# Altium footprint library adafruit.PCBLIB: 643 footprints (part 10 of 41)
Each footprint in its own frame and in the unit in brackets; x right, y up, seen from the top. Pads: shape width x height; smd on the part's side, far side on the other; paste and mask are expansions set on the pad; w line width, h text height; cw(c..) or ccw(c..) is an arc to the next point about the centre after c.
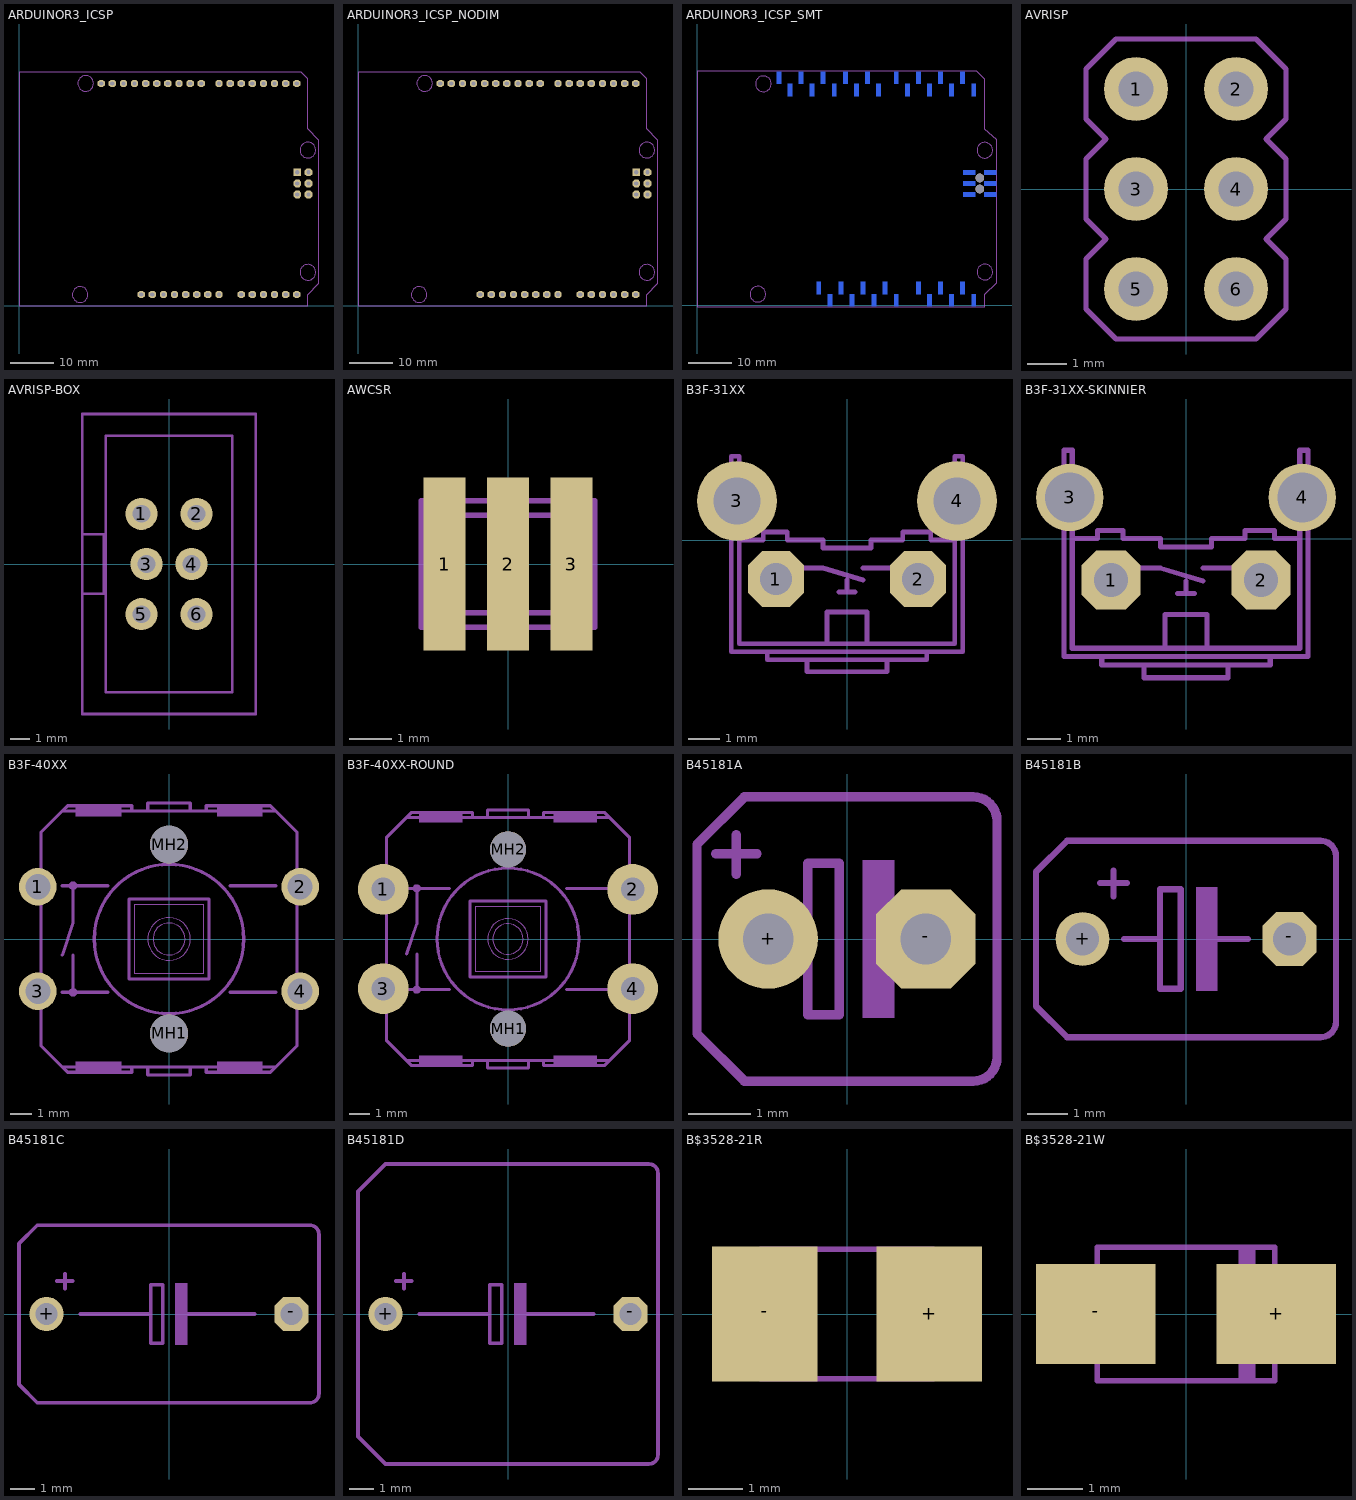
[diagram p9: the footprints below, top view; thin cyan lines are the x and y axes]

## ARDUINOR3_ICSP [mil]
pads (38):
  oct 66x66 / inner round 60.98 / far side oct 66x66 hole 39.37: 3V(1400,100) 5V(1500,100) A0(2000,100) A1(2100,100) A2(2200,100) A3(2300,100) A4(2400,100) A5(2500,100) AREF(940,2000) D0(2500,2000) D1(2400,2000) D2(2300,2000) D3(2200,2000) D4(2100,2000) D5(2000,2000) D6(1900,2000) D7(1800,2000) D8(1640,2000) D9(1540,2000) D10(1440,2000) D11(1340,2000) D12(1240,2000) D13(1140,2000) GND(1040,2000) GND@1(1700,100) GND@2(1600,100) IOREF(1200,100) RESERVED(1100,100) RESET(1300,100) SCL(740,2000) SDA(840,2000) VIN(1800,100)
  oct 70x70 / inner round 64.67 / far side oct 70x70 hole 39.37: 5V_ICSP(2605,1200) GND@3(2605,1000) MOSI(2605,1100) RESET_ICSP(2505,1000) SCK(2505,1100)
  rect 70x70 / inner round 64.67 / far side rect 70x70 hole 39.37: MISO(2505,1200)
Dimension:
  lines w0: 0,0 2600,0 2600,100 2700,200 2700,1490 2600,1590 2600,2040 2540,2100 0,2100 0,0
tDocu:
  circle w5: c600,2000 r70.71
  circle w5: c550,100 r70.71
  circle w5: c2600,1400 r70.71
  circle w5: c2600,300 r70.71
tPlace:
  text "RST" at 1249.6,10 h34
  text "3v" at 1368.2,150 h34
  text "5v" at 1478.2,150 h34
  text "Gnd" at 1605.4,150 h34
  text "Vin" at 1763.2,150 h34
  text "Analog In" at 2130.4,18.2 h34
  text "0" at 1985,150 h34
  text "1" at 2085,150 h34
  text "2" at 2185,150 h34
  text "3" at 2285,150 h34
  text "4" at 2385,150 h34
  text "5" at 2485,150 h34
  text "ARef" at 875,1910 h34
  text "Gnd" at 990,2050 h34
  text "13" at 1185,1950 h34
  text "12" at 1285,1950 h34
  text "11" at 1385,1950 h34
  text "10" at 1485,1950 h34
  text "9" at 1565,1950 h34
  text "8" at 1665,1950 h34
  text "7" at 1825,1950 h34
  text "6" at 1925,1950 h34
  text "5" at 2025,1950 h34
  text "4" at 2125,1950 h34
  text "3" at 2225,1950 h34
  text "2" at 2325,1950 h34
  text "1" at 2425,1950 h34
  text "0" at 2525,1950 h34
  text "Digital I/O" at 1245,2050 h34
  text "Digital I/O" at 2005,2050 h34
  text "SCL" at 695,1910 h34
  text "SDA" at 785,2050 h34
  text "IOr" at 1159.6,150 h34

## ARDUINOR3_ICSP_NODIM [mil]
pads (38):
  oct 66x66 / inner round 60.98 / far side oct 66x66 hole 39.37: 3V(1400,100) 5V(1500,100) A0(2000,100) A1(2100,100) A2(2200,100) A3(2300,100) A4(2400,100) A5(2500,100) AREF(940,2000) D0(2500,2000) D1(2400,2000) D2(2300,2000) D3(2200,2000) D4(2100,2000) D5(2000,2000) D6(1900,2000) D7(1800,2000) D8(1640,2000) D9(1540,2000) D10(1440,2000) D11(1340,2000) D12(1240,2000) D13(1140,2000) GND(1040,2000) GND@1(1700,100) GND@2(1600,100) IOREF(1200,100) RESERVED(1100,100) RESET(1300,100) SCL(740,2000) SDA(840,2000) VIN(1800,100)
  oct 70x70 / inner round 64.67 / far side oct 70x70 hole 39.37: 5V_ICSP(2605,1200) GND@3(2605,1000) MOSI(2605,1100) RESET_ICSP(2505,1000) SCK(2505,1100)
  rect 70x70 / inner round 64.67 / far side rect 70x70 hole 39.37: MISO(2505,1200)
tDocu:
  circle w5: c600,2000 r70.71
  circle w5: c550,100 r70.71
  circle w5: c2600,1400 r70.71
  circle w5: c2600,300 r70.71
  lines w0: 0,0 2600,0 2600,100 2700,200 2700,1490 2600,1590 2600,2040 2540,2100 0,2100 0,0
tPlace:
  text "RST" at 1249.6,10 h34
  text "3v" at 1368.2,150 h34
  text "5v" at 1478.2,150 h34
  text "Gnd" at 1605.4,150 h34
  text "Vin" at 1763.2,150 h34
  text "Analog In" at 2130.4,18.2 h34
  text "0" at 1985,150 h34
  text "1" at 2085,150 h34
  text "2" at 2185,150 h34
  text "3" at 2285,150 h34
  text "4" at 2385,150 h34
  text "5" at 2485,150 h34
  text "ARef" at 875,1910 h34
  text "Gnd" at 990,2050 h34
  text "13" at 1185,1950 h34
  text "12" at 1285,1950 h34
  text "11" at 1385,1950 h34
  text "10" at 1485,1950 h34
  text "9" at 1565,1950 h34
  text "8" at 1665,1950 h34
  text "7" at 1825,1950 h34
  text "6" at 1925,1950 h34
  text "5" at 2025,1950 h34
  text "4" at 2125,1950 h34
  text "3" at 2225,1950 h34
  text "2" at 2325,1950 h34
  text "1" at 2425,1950 h34
  text "0" at 2525,1950 h34
  text "Digital I/O" at 1245,2050 h34
  text "Digital I/O" at 2005,2050 h34
  text "SCL" at 695,1910 h34
  text "SDA" at 785,2050 h34
  text "IOr" at 1159.6,150 h34

## ARDUINOR3_ICSP_SMT [mil]
pads (40):
  rect 40x110 smd far side: 3V(1400,45) 5V(1500,155) A0(2000,155) A1(2100,45) A2(2200,155) A3(2300,45) A4(2400,155) A5(2500,45) AREF(940,2055) D0(2500,1945) D1(2400,2055) D2(2300,1945) D3(2200,2055) D4(2100,1945) D5(2000,2055) D6(1900,1945) D7(1800,2055) D8(1640,1945) D9(1540,2055) D10(1440,1945) D11(1340,2055) D12(1240,1945) D13(1140,2055) GND(1040,1945) GND@1(1700,155) GND@2(1600,45) IOREF(1200,45) RESERVED(1100,155) RESET(1300,155) SCL(740,2055) SDA(840,1945) VIN(1800,45)
  rect 110x40 smd far side: 5V_ICSP(2650,1200) GND@3(2650,1000) MISO(2460,1200) MOSI(2650,1100) RESET_ICSP(2460,1000) SCK(2460,1100)
  round 78.74 hole 78.74 unplated: MH1(2555,1150) MH2(2555,1050)
tDocu:
  circle w5: c600,2000 r70.71
  circle w5: c550,100 r70.71
  circle w5: c2600,1400 r70.71
  circle w5: c2600,300 r70.71
  lines w0: 0,-15 2600,-15 2600,100 2710,205 2710,1495 2600,1590 2600,2040 2525,2115 0,2115 0,-15

## AVRISP [mil]
pads (6):
  round 64 hole 35.43: 1(-50,100) 2(50,100) 3(-50,0) 4(50,0) 5(-50,-100) 6(50,-100)
tPlace:
  lines w5: -100,-120 -70,-150 70,-150 100,-120 100,-70 80,-50 100,-30 100,30 80,50 100,70 100,120 70,150 -70,150 -100,120 -100,70 -80,50 -100,30 -100,-30 -80,-50 -100,-70 -100,-120
  text "1" at -120,140 h34

## AVRISP-BOX [mil]
pads (6):
  round 64 hole 35.43: 1(-55,100) 2(55,100) 3(-45,0) 4(45,0) 5(-55,-100) 6(55,-100)
tPlace:
  lines w5: -173.23,-59.06 -173.23,-299.21 173.23,-299.21 173.23,299.21 -173.23,299.21 -173.23,59.06 ; -173.23,-59.06 -173.23,59.06 ; -173.23,-59.06 -129.92,-59.06 -129.92,59.06 -173.23,59.06 ; -125.98,-255.91 125.98,-255.91 125.98,255.91 -125.98,255.91 -125.98,-255.91

## AWCSR [mm]
pads (3):
  rect 1x4.1 smd: 1(-1.5,0) 2(0,0) 3(1.5,0)
tPlace:
  lines w0.127: -1.9,-1.45 -1.9,-1.2 ; -1.9,1.2 -1.9,1.5 ; -1.1,-1.45 -1.1,-1.2 ; -0.4,-1.45 -0.4,-1.15 ; -0.4,1.2 -0.4,1.5 ; 0.4,-1.45 0.4,-1.2 ; 0.4,1.2 0.4,1.5 ; 1.1,-1.45 1.1,-1.2 ; 1.1,1.2 1.1,1.5 ; 1.9,-1.45 1.9,-1.2 ; 1.9,1.2 1.9,1.5 ; -1.9,1.5 -2.05,1.5 -2.05,-1.5 -1.7,-1.5 cw(c-1.5,-1.5) -1.3,-1.5 -0.2,-1.5 cw(c0,-1.5) 0.2,-1.5 1.3,-1.5 cw(c1.5,-1.5) 1.7,-1.5 2.05,-1.5 2.05,1.5 1.9,1.5 ; -1.9,1.5 -1.7,1.5 ccw(c-1.5,1.5) -1.3,1.5 -1.1,1.5 ; -1.1,1.15 1.85,1.15 cw(c1.85,1) 2,1 2,-1.05 cw(c1.85,-1) 1.8,-1.15 -0.4,-1.15 ; -1.1,1.15 -1.9,1.15 ccw(c-1.9,1.05) -2,1.05 -2,-0.95 ccw(c-1.8,-0.95) -1.8,-1.15 -0.4,-1.15 ; -1.1,1.15 -1.1,1.5 ; -1.1,1.5 -0.4,1.5 ; -0.4,1.5 -0.2,1.5 ccw(c0,1.5) 0.2,1.5 0.4,1.5 ; 0.4,1.5 1.1,1.5 ; 1.1,1.5 1.3,1.5 ccw(c1.5,1.5) 1.7,1.5 1.9,1.5

## B3F-31XX [mil]
pads (4):
  oct 70x70 / inner round 64.67 / far side oct 70x70 hole 40: 1(-89,-49) 2(89,-49)
  round 100 hole 59: 3(-138,49) 4(138,49)
tDocu:
  lines w6: -145,0 -145,105 -135,105 -135,0 ; -135,-80 -135,-20 ; -65,-35 -30,-35 20,-50 ; -10,-65 0,-65 ; 0,-50 0,-65 ; 10,-65 0,-65 ; 20,-35 65,-35 ; 135,-80 135,-20 ; 135,0 135,105 145,105 145,0
tPlace:
  lines w6: -145,0 -145,-140 100,-140 ; -135,-80 -135,-130 -25,-130 ; -135,-20 -135,0 -105,0 -105,10 -75,10 -75,0 -30,0 -30,-10 30,-10 30,0 70,0 70,10 105,10 105,0 135,0 135,-20 ; -100,-140 -100,-150 -50,-150 ; 135,-80 135,-130 25,-130 ; 145,0 145,-140 100,-140 ; -50,-150 -50,-165 50,-165 50,-150 ; -50,-150 50,-150 ; -25,-130 -25,-90 25,-90 25,-130 ; -25,-130 25,-130 ; 50,-150 100,-150 100,-140

## B3F-31XX-SKINNIER [mil]
pads (4):
  oct 70x70 / inner round 64.67 / far side oct 70x70 hole 40: 1(-89,-49) 2(89,-49)
  round 80 hole 59: 3(-138,49) 4(138,49)
tDocu:
  lines w6: -145,0 -145,105 -135,105 -135,0 ; -135,-80 -135,-20 ; -65,-35 -30,-35 20,-50 ; -10,-65 0,-65 ; 0,-50 0,-65 ; 10,-65 0,-65 ; 20,-35 65,-35 ; 135,-80 135,-20 ; 135,0 135,105 145,105 145,0
tPlace:
  lines w6: -145,0 -145,-140 100,-140 ; -135,-80 -135,-130 -25,-130 ; -135,-20 -135,0 -105,0 -105,10 -75,10 -75,0 -30,0 -30,-10 30,-10 30,0 70,0 70,10 105,10 105,0 135,0 135,-20 ; -100,-140 -100,-150 -50,-150 ; 135,-80 135,-130 25,-130 ; 145,0 145,-140 100,-140 ; -50,-150 -50,-165 50,-165 50,-150 ; -50,-150 50,-150 ; -25,-130 -25,-90 25,-90 25,-130 ; -25,-130 25,-130 ; 50,-150 100,-150 100,-140

## B3F-40XX [mil]
pads (6):
  round 70.5 hole 47: 1(-246,98) 2(246,98) 3(-246,-98) 4(246,-98)
  round 71 hole 71 unplated: MH1(0,-177) MH2(0,177)
tDocu:
  circle w6: c-180,100 r5
  circle w6: c-180,-100 r5
  region: 240,-115 240,-80 260,-80 260,-115
  region: 240,80 240,115 260,115 260,80
  region: -260,80 -260,115 -240,115 -240,80
  region: -260,-115 -260,-80 -240,-80 -240,-115
  lines w6: -240,-150 -240,-45 ; -240,45 -240,150 ; -200,-100 -180,-100 ; -200,-30 -180,30 -180,100 ; -200,100 -180,100 ; -180,-30 -180,-100 ; -115,-100 -180,-100 ; -115,100 -180,100 ; 115,-100 200,-100 ; 115,100 200,100 ; 240,-150 240,-45 ; 240,45 240,150
tPlace:
  circle w6: c0,0 r140
  circle w2: c0,0 r40
  circle w2: c0,0 r30
  region: 90,230 90,250 175,250 175,230
  region: -175,230 -175,250 -90,250 -90,230
  region: 90,-250 90,-230 175,-230 175,-250
  region: -175,-250 -175,-230 -90,-230 -90,-250
  lines w2: -65,-65 65,-65 65,65 -65,65 -65,-65
  lines w6: -240,-150 -240,-200 -200,-240 ; -240,-45 -240,45 ; -240,150 -240,200 -200,240 ; 240,-150 240,-200 200,-240 ; 240,-45 240,45 ; 240,150 240,200 200,240 ; -200,-240 -70,-240 ; -200,-240 -190,-250 -70,-250 -70,-240 ; -200,240 -70,240 ; -200,240 -190,250 -70,250 -70,240 ; -70,-240 -40,-240 ; -70,240 -40,240 ; -40,-240 -40,-255 40,-255 40,-240 ; -40,-240 40,-240 ; -40,240 -40,255 40,255 40,240 ; -40,240 40,240 ; 40,-240 70,-240 ; 40,240 70,240 ; 70,-240 70,-250 190,-250 200,-240 ; 70,-240 200,-240 ; 70,240 200,240 ; 70,240 70,250 190,250 200,240 ; -75,-75 75,-75 75,75 -75,75 -75,-75
  text "1" at -205,130 h77.5
  text "2" at 155,130 h77.5
  text "3" at -205,-185 h77.5
  text "4" at 160,-185 h77.5

## B3F-40XX-ROUND [mil]
pads (6):
  round 100 hole 47: 1(-246,98) 2(246,98) 3(-246,-98) 4(246,-98)
  round 71 hole 71 unplated: MH1(0,-177) MH2(0,177)
tDocu:
  circle w6: c-180,100 r5
  circle w6: c-180,-100 r5
  region: 240,-115 240,-80 260,-80 260,-115
  region: 240,80 240,115 260,115 260,80
  region: -260,80 -260,115 -240,115 -240,80
  region: -260,-115 -260,-80 -240,-80 -240,-115
  lines w6: -240,-150 -240,-45 ; -240,45 -240,150 ; -200,-100 -180,-100 ; -200,-30 -180,30 -180,100 ; -200,100 -180,100 ; -180,-30 -180,-100 ; -115,-100 -180,-100 ; -115,100 -180,100 ; 115,-100 200,-100 ; 115,100 200,100 ; 240,-150 240,-45 ; 240,45 240,150
tPlace:
  circle w6: c0,0 r140
  circle w2: c0,0 r40
  circle w2: c0,0 r30
  region: 90,230 90,250 175,250 175,230
  region: -175,230 -175,250 -90,250 -90,230
  region: 90,-250 90,-230 175,-230 175,-250
  region: -175,-250 -175,-230 -90,-230 -90,-250
  lines w2: -65,-65 65,-65 65,65 -65,65 -65,-65
  lines w6: -240,-150 -240,-200 -200,-240 ; -240,-45 -240,45 ; -240,150 -240,200 -200,240 ; 240,-150 240,-200 200,-240 ; 240,-45 240,45 ; 240,150 240,200 200,240 ; -200,-240 -70,-240 ; -200,-240 -190,-250 -70,-250 -70,-240 ; -200,240 -70,240 ; -200,240 -190,250 -70,250 -70,240 ; -70,-240 -40,-240 ; -70,240 -40,240 ; -40,-240 -40,-255 40,-255 40,-240 ; -40,-240 40,-240 ; -40,240 -40,255 40,255 40,240 ; -40,240 40,240 ; 40,-240 70,-240 ; 40,240 70,240 ; 70,-240 70,-250 190,-250 200,-240 ; 70,-240 200,-240 ; 70,240 200,240 ; 70,240 70,250 190,250 200,240 ; -75,-75 75,-75 75,75 -75,75 -75,-75
  text "1" at -205,130 h77.5
  text "2" at 155,130 h77.5
  text "3" at -205,-185 h77.5
  text "4" at 160,-185 h77.5

## B45181A [mil]
pads (2):
  round 63 hole 32: +(-50,0)
  oct 63x63 / inner round 58.2 / far side oct 63x63 hole 32: -(50,0)
tDocu:
  region: 10,-50 10,50 30,50 30,-50
  lines w6: -65,0 -25,0 ; 25,0 65,0 ; -25,0 -25,-48 -5,-48 -5,48 -25,48 -25,0
tPlace:
  lines w6: -83,54 -57,54 ; -70,41 -70,66 ; -95,-60 -65,-90 80,-90 ccw(c80,-75) 95,-75 95,75 ccw(c80,75) 80,90 -65,90 -95,60 -95,-60

## B45181B [mil]
pads (2):
  round 52 hole 32: +(-100,0)
  oct 52x52 / inner round 48.04 / far side oct 52x52 hole 32: -(100,0)
tPlace:
  region: 10,-50 10,50 30,50 30,-50
  lines w6: -83,54 -57,54 ; -70,41 -70,66 ; -60,0 -25,0 ; 25,0 60,0 ; -25,0 -25,-48 -5,-48 -5,48 -25,48 -25,0 ; -145,-65 -115,-95 130,-95 ccw(c130,-80) 145,-80 145,80 ccw(c130,80) 130,95 -115,95 -145,65 -145,-65

## B45181C [mil]
pads (2):
  round 56 hole 36: +(-200,0)
  oct 56x56 / inner round 51.74 / far side oct 56x56 hole 36: -(200,0)
tPlace:
  region: 10,-50 10,50 30,50 30,-50
  lines w6: -183,54 -157,54 ; -170,41 -170,66 ; -145,0 -30,0 ; 25,0 140,0 ; -30,0 -30,-48 -10,-48 -10,48 -30,48 -30,0 ; -245,-115 -215,-145 230,-145 ccw(c230,-130) 245,-130 245,130 ccw(c230,130) 230,145 -215,145 -245,115 -245,-115

## B45181D [mil]
pads (2):
  round 56 hole 36: +(-200,0)
  oct 56x56 / inner round 51.74 / far side oct 56x56 hole 36: -(200,0)
tPlace:
  region: 10,-50 10,50 30,50 30,-50
  lines w6: -183,54 -157,54 ; -170,41 -170,66 ; -145,0 -30,0 ; 25,0 140,0 ; -30,0 -30,-48 -10,-48 -10,48 -30,48 -30,0 ; -245,-200 -200,-245 230,-245 ccw(c230,-230) 245,-230 245,230 ccw(c230,230) 230,245 -200,245 -245,200 -245,-200

## B$3528-21R [mm]
pads (2):
  rect 1.95x2.5 smd: +(1.525,0) -(-1.525,0)
tDocu:
  region: -1.75,-0.6 -1.75,0.6 -1.625,0.6 -1.625,-0.6
  region: 1.625,-0.6 1.625,0.6 1.75,0.6 1.75,-0.6
  region: 0.95,-1.225 0.95,1.225 1.25,1.225 1.25,-1.225
  lines w0.102: -1.6,-1.2 1.6,-1.2 1.6,1.2 -1.6,1.2 -1.6,-1.2

## B$3528-21W [mil]
pads (2):
  rect 84.65x70.87 smd: +(63.98,0) -(-63.98,0)
tDocu:
  region: -68.9,-23.62 -68.9,23.62 -63.98,23.62 -63.98,-23.62
  region: 63.98,-23.62 63.98,23.62 68.9,23.62 68.9,-23.62
  region: 37.4,-48.23 37.4,48.23 49.21,48.23 49.21,-48.23
  lines w4: -62.99,-47.24 62.99,-47.24 62.99,47.24 -62.99,47.24 -62.99,-47.24